# Altium footprint library MRJ53XXX1.PcbLib: 1 footprints
Each footprint in its own frame and in the unit in brackets; x right, y up, seen from the top. Pads: shape width x height; smd on the part's side, far side on the other; paste and mask are expansions set on the pad; w line width, h text height; cw(c..) or ccw(c..) is an arc to the next point about the centre after c.
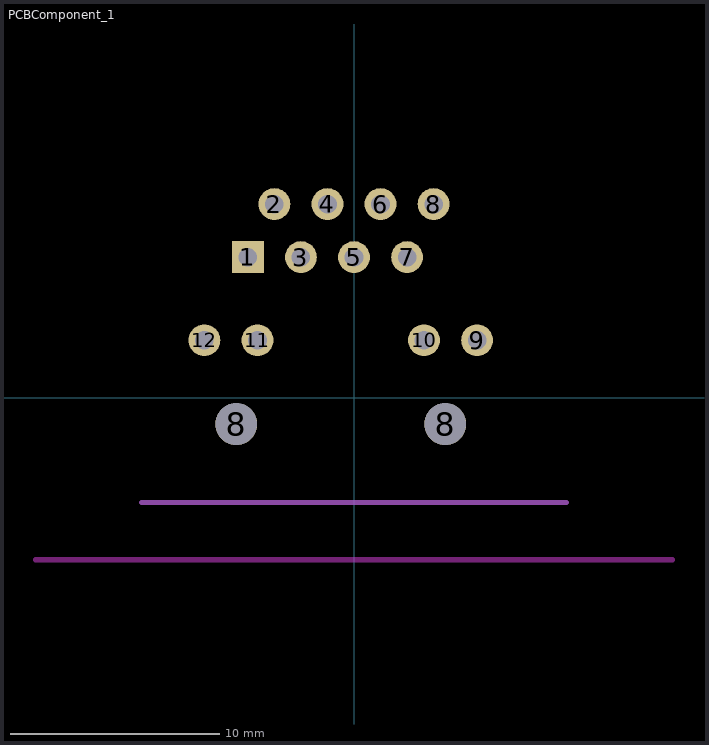
[diagram p0: the footprint, top view; thin cyan lines are the x and y axes]

## PCBComponent_1 [mil]
pads (14):
  rect 60x60 hole 35: 1(-200,265)
  round 60 hole 35: 2(-150,365) 3(-100,265) 4(-50,365) 5(0,265) 6(50,365) 7(100,265) 8(150,365) 9(232,108) 10(132,108) 11(-182,108) 12(-282,108)
  round 79 hole 79: 8(-222,-50) 8(172,-50)
Keep-Out Layer:
  lines w10: -600,-306 600,-306
Mechanical 1:
  lines w10: -400,-198 400,-198
3D body: height 661.33, standoff -96.15, extent -621.46,-656.21 571.46,405